# EAGLE library part 282836-8 (library con_tyco_eurostyle)
Tyco 282836-8 Eurostyle Terminal Block Connector. TERM BLOCK 8POS SIDE ENTRY 5MM Digikey:
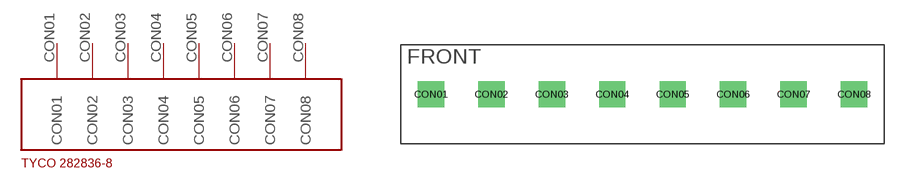
[diagram p1: symbol with the pads of 282836-8; footprint 282836-8]

Designator prefix -

## 282836-8  [282836-8]
CON01  CON01
CON02  CON02
CON03  CON03
CON04  CON04
CON05  CON05
CON06  CON06
CON07  CON07
CON08  CON08

## Footprint 282836-8 (pad centres in mm)
Tyco 282836-8 Eurostyle Terminal Block Connector. TERM BLOCK 8POS SIDE ENTRY 5MM Digikey:
drill 1.2 pad 2.184 square: CON01 -20,0; CON02 -15,0; CON03 -10,0; CON04 -5,0; CON05 0,0; CON06 5,0; CON07 10,0; CON08 15,0